# EAGLE library part 750310002 (library Wurth_Power Magnetics_WE-POE)
WE-PoE Power over Ethernet Transformer Characteristics Flyback transformer designed for PoE PDs Input voltage: 36 V to 57 V Switching frequencies: 200–500 kHz Operating temperature: –40 ºC to +125 ºC Isolation voltage: 1.5 kVAC/1 min Different output powers and voltages available Applications PoE powered devices IP Phones WLAN Access Points Access control terminals Security cameras <https://www.we-online.com/components/media/o766301v209%20Family-POE.jpg> Details see: www.we-online.com/en/components/products/WE-POE <www.we-online.com/catalog/WE-POE/?utm_source=eagle_model&utm_medium=description_link&utm_campaign=eisos_eagle> Updated by Ella 2024-01-09 2024 (C) Wurth Elektronik
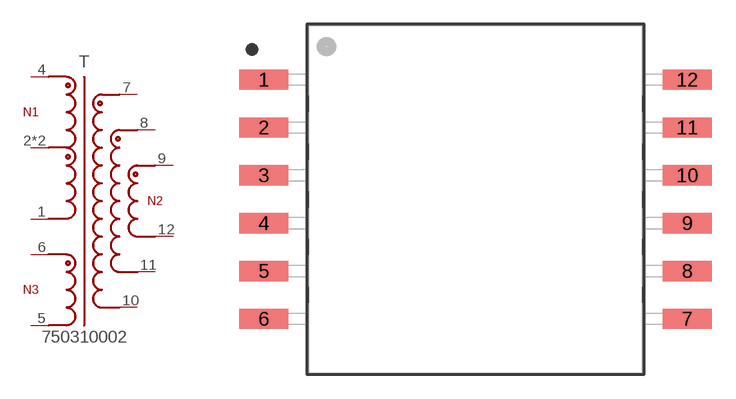
[diagram p29: symbol with the pads of WE-POE_EFD20; footprint WE-POE_EFD20]

Designator prefix T

## 750310002 (DATASHEET-URL: https://www.we-online.com/redexpert/spec/750310002?ae; IO1: 4A; L: 28uH; MOUNT: SMT; N: 3.5:1:2.75; PART-NUMBER: 750310002; SIZE: EFD20; VALUE: 750310002; VERSION: Flyback; VIN: 20 - 72 V (DC); VO1: 5V; VT: 1500V(AC))  [WE-POE_EFD20]
1  1  pas
2  2+3  pas
3  2+3  pas
4  4  pas
5  5  pas
6  6  pas
7  7  pas
8  8  pas
9  9  pas
10  10  pas
11  11  pas
12  12  pas

## Footprint WE-POE_EFD20 (pad centres in mm)
WE-PoE Power over Ethernet Transformer EFD20, SMT, 12Pins
smd 3.05 x 1.27: 1 -13.26,7.5; 2 -13.26,4.5; 3 -13.26,1.5; 4 -13.26,-1.5; 5 -13.26,-4.5; 6 -13.26,-7.5; 7 13.26,-7.5; 8 13.26,-4.5; 9 13.26,-1.5; 10 13.26,1.5; 11 13.26,4.5; 12 13.26,7.5